# EAGLE library part 6120XX21721_61202421721 (library WR-BHD)
WR-BHD 2.54 mm Male Characteristics Working Voltage: 250 V UL approval: E323964 UL94-V0 Applications Industrial Production lines Details see: www.we-online.com/components/products/WTB_WR_BHD_BOX_HEADER_2_54MM_MALE_PCB Updated by Ella 2026-09-16 2026 (C) Würth Elektronik
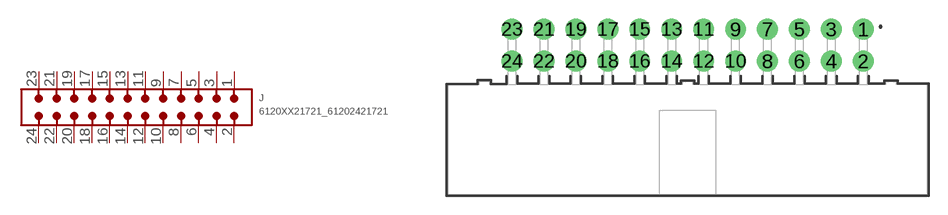
[diagram p138: symbol with the pads of 61202421721; footprint 61202421721]

Designator prefix J

## 6120XX21721_61202421721 (CATEGORY: Connectors; DATASHEET: https://www.we-online.com/redexpert/spec/61202421721?ae; GENDER: Male; LENGTH: 38.14 mm; MANUFACTURER: Würth Elektronik; MOUNT: THT; MPN: 61202421721; OPERATING_TEMPERATURE: -40 °C up to +105 °C; PACKAGING: Tray; PINS: 24; PITCH: 2.54mm; RATED_CURRENT: 3 A; SIZE: THT Angled; TYPE: Angled; VALUE: 61202421721; VERSION: Low Profile)  [61202421721]
1  1  pas
2  2  pas
3  3  pas
4  4  pas
5  5  pas
6  6  pas
7  7  pas
8  8  pas
9  9  pas
10  10  pas
11  11  pas
12  12  pas
13  13  pas
14  14  pas
15  15  pas
16  16  pas
17  17  pas
18  18  pas
19  19  pas
20  20  pas
21  21  pas
22  22  pas
23  23  pas
24  24  pas

## Footprint 61202421721 (pad centres in mm)
WR-BHD Wire-to-Board Connectors, 2.54mm, Male, THT Angled, 24pins
drill 1.1: 1 13.97,8.805; 2 13.97,6.265; 3 11.43,8.805; 4 11.43,6.265; 5 8.89,8.805; 6 8.89,6.265; 7 6.35,8.805; 8 6.35,6.265; 9 3.81,8.805; 10 3.81,6.265; 11 1.27,8.805; 12 1.27,6.265; 13 -1.27,8.805; 14 -1.27,6.265; 15 -3.81,8.805; 16 -3.81,6.265; 17 -6.35,8.805; 18 -6.35,6.265; 19 -8.89,8.805; 20 -8.89,6.265; 21 -11.43,8.805; 22 -11.43,6.265; 23 -13.97,8.805; 24 -13.97,6.265